# Altium schematic symbol library MCP1650.SchLib: 1 symbol
Pins are listed as number, name and electrical type; pins without a type are passive.

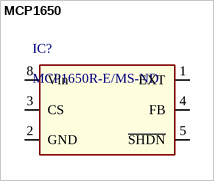
[diagram p0: symbol MCP1650]

## MCP1650
designator IC?, comment MCP1650R-E/MS-ND
ID: MCP1650R-E/MS-ND; PRICE: 1.56000; BUY_LINK: http://www.digikey.com/product-detail/en/MCP1650R-E%2FMS/MCP1650R-E%2FMS-ND/683175; PDF: http://www.microchip.com/mymicrochip/filehandler.aspx?ddocname=en019808
footprint MSOP8
pins: 1 EXT, 2 GND, 3 CS, 4 FB, 5 ~{SHDN}, 8 Vin